# Altium footprint library MICRO_USB-B-1981568.PcbLib: 1 footprints
Each footprint in its own frame and in the unit in brackets; x right, y up, seen from the top. Pads: shape width x height; smd on the part's side, far side on the other; paste and mask are expansions set on the pad; w line width, h text height; cw(c..) or ccw(c..) is an arc to the next point about the centre after c.
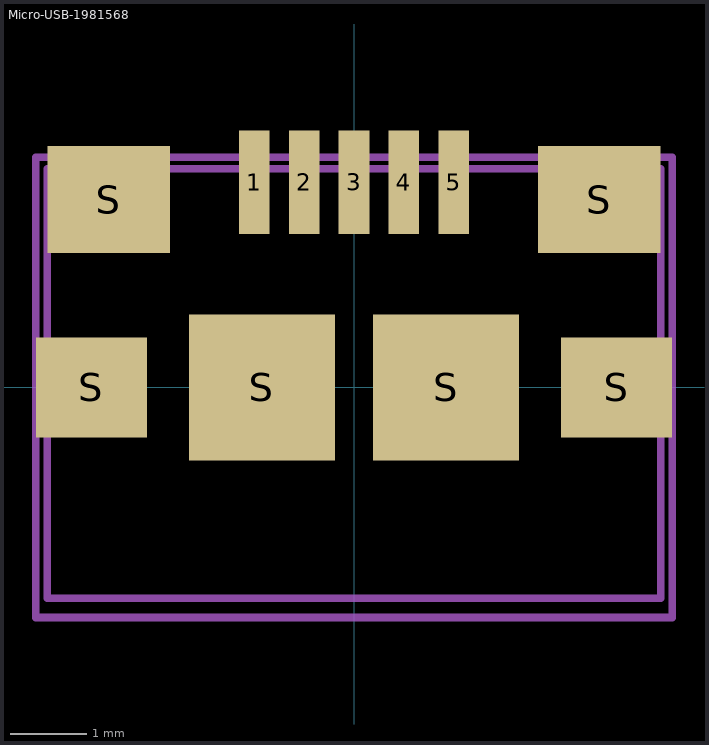
[diagram p0: the footprint, top view; thin cyan lines are the x and y axes]

## Micro-USB-1981568 [mm]
height 3
pads (11):
  rect 0.4x1.35 smd mask+0.075: 1(-1.3,2.675) 2(-0.65,2.675) 3(0,2.675) 4(0.65,2.675) 5(1.3,2.675)
  rect 1.45x1.3 smd: S(-3.425,0) S(3.425,0)
  rect 1.6x1.4 smd: S(-3.2,2.45) S(3.2,2.45)
  rect 1.9x1.9 smd: S(-1.2,0) S(1.2,0)
Mechanical 13:
  lines w0.1: -4,-2.75 4,-2.75 4,2.85 -4,2.85 -4,-2.75
Mechanical 15:
  lines w0.1: -4.15,-3 4.15,-3 4.15,3 -4.15,3 -4.15,-3
3D body "c-1981568-1-g-3d.stp": height 2.81, standoff -0.27, extent -4,-2.75 4,2.85